# Altium footprint library TPS564257DRLR.PcbLib: 3 footprints
Each footprint in its own frame and in the unit in brackets; x right, y up, seen from the top. Pads: shape width x height; smd on the part's side, far side on the other; paste and mask are expansions set on the pad; w line width, h text height; cw(c..) or ccw(c..) is an arc to the next point about the centre after c.
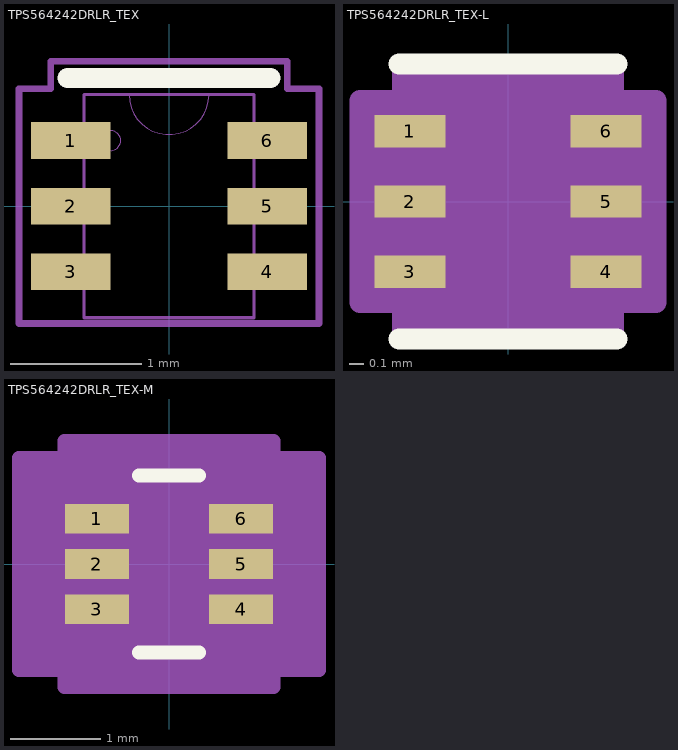
[diagram p0: the footprints below, top view; thin cyan lines are the x and y axes]

## TPS564242DRLR_TEX [mil]
pads (6):
  rect 23.87x11 smd paste+0 mask+0.98: 1(-29.44,19.69) 2(-29.44,0) 3(-29.44,-19.69) 4(29.44,-19.69) 5(29.44,0) 6(29.44,19.69)
Top Overlay:
  lines w6: -30.5,38.5 30.5,38.5
Mechanical 13:
  circle w0: c-17.5,19.69 r3
  lines w0: -12,33.5 ccw(c0,33.5) 12,33.5
  lines w1: -25.5,-33.5 25.5,-33.5 25.5,33.5 -25.5,33.5 -25.5,-33.5
Mechanical 15:
  lines w1.97: -45,-35.19 -35.5,-35.19 35.5,-35.19 45,-35.19 45,35.19 35.5,35.19 35.5,43.5 -35.5,43.5 -35.5,35.19 -45,35.19 -45,-35.19
3D body "TPS564242DRLR_TEX.step": height 24.09, standoff 0, extent -33.5,-33.5 33.5,33.5

## TPS564242DRLR_TEX-L [mil]
pads (6):
  rect 19.94x9.03 smd paste+0 mask+0: 1(-27.47,19.69) 2(-27.47,0) 3(-27.47,-19.69) 4(27.47,-19.69) 5(27.47,0) 6(27.47,19.69)
Top Overlay:
  lines w6: -30.5,-38.5 30.5,-38.5 ; -30.5,38.5 30.5,38.5
Mechanical 13:
  circle w0: c-17.5,19.69 r3
  lines w0: -12,33.5 ccw(c0,33.5) 12,33.5
  lines w1: -25.5,-33.5 -25.5,33.5 25.5,33.5 25.5,-33.5 -25.5,-33.5
Mechanical 15:
  region: 29.5,-37.5 -29.5,-37.5 -29.5,-28.21 -41.44,-28.21 -41.44,28.21 -29.5,28.21 -29.5,37.5 29.5,37.5 29.5,28.21 41.44,28.21 41.44,-28.21 29.5,-28.21
  lines w6: -41.44,-28.21 -41.44,28.21 -29.5,28.21 -29.5,37.5 29.5,37.5 29.5,28.21 41.44,28.21 41.44,-28.21 29.5,-28.21 29.5,-37.5 -29.5,-37.5 -29.5,-28.21 -41.44,-28.21
3D body "TPS564242DRLR_TEX.step": height 24.09, standoff 0, extent -33.5,-33.5 33.5,33.5

## TPS564242DRLR_TEX-M [mil]
pads (6):
  rect 27.81x12.97 smd paste+0 mask+0: 1(-31.41,19.69) 2(-31.41,0) 3(-31.41,-19.69) 4(31.41,-19.69) 5(31.41,0) 6(31.41,19.69)
Top Overlay:
  lines w6: -13.06,-38.5 13.06,-38.5 ; -13.06,38.5 13.06,38.5
Mechanical 13:
  circle w0: c-17.5,19.69 r3
  lines w0: -12,33.5 ccw(c0,33.5) 12,33.5
  lines w1: -25.5,-33.5 -25.5,33.5 25.5,33.5 25.5,-33.5 -25.5,-33.5
Mechanical 15:
  region: 45.5,-53.5 -45.5,-53.5 -45.5,-46.17 -65.31,-46.17 -65.31,46.17 -45.5,46.17 -45.5,53.5 45.5,53.5 45.5,46.17 65.31,46.17 65.31,-46.17 45.5,-46.17
  lines w6: -65.31,-46.17 -65.31,46.17 -45.5,46.17 -45.5,53.5 45.5,53.5 45.5,46.17 65.31,46.17 65.31,-46.17 45.5,-46.17 45.5,-53.5 -45.5,-53.5 -45.5,-46.17 -65.31,-46.17
3D body "TPS564242DRLR_TEX.step": height 24.09, standoff 0, extent -33.5,-33.5 33.5,33.5